# Altium footprint library microchip-package.PcbLib: 7 footprints
Each footprint in its own frame and in the unit in brackets; x right, y up, seen from the top. Pads: shape width x height; smd on the part's side, far side on the other; paste and mask are expansions set on the pad; w line width, h text height; cw(c..) or ccw(c..) is an arc to the next point about the centre after c.
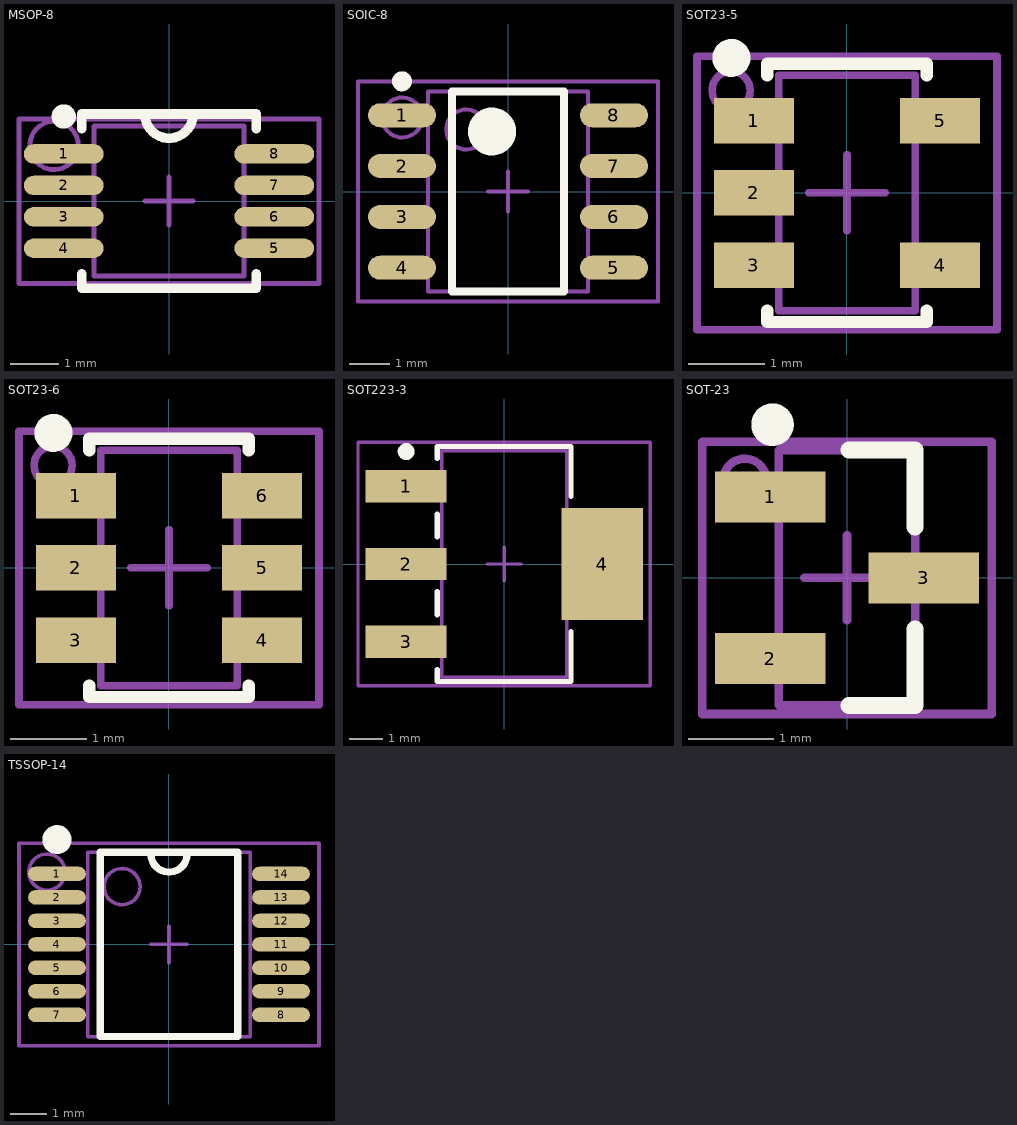
[diagram p0: the footprints below, top view; thin cyan lines are the x and y axes]

## MSOP-8 [mm] "TSOP, 8-Leads, Body 3.1x3.1mm (max), Pitch 0.65mm, IPC Medium Density"
height 1.1
pads (8):
  oval 1.65x0.4 smd: 1(-2.175,0.975) 2(-2.175,0.325) 3(-2.175,-0.325) 4(-2.175,-0.975) 5(2.175,-0.975) 6(2.175,-0.325) 7(2.175,0.325) 8(2.175,0.975)
Top Overlay:
  circle w0.25: c-2.175,1.75 r0.125
  lines w0.2: -1.8,-1.5 -1.8,-1.8 1.8,-1.8 1.8,-1.5 ; -1.8,1.5 -1.8,1.8 1.8,1.8 1.8,1.5 ; -0.5,1.8 ccw(c0,1.8) 0.5,1.8
Mechanical 13:
  lines w0.1: -0.5,0 0.5,0 ; 0,-0.5 0,0.5 ; -1.55,-1.55 1.55,-1.55 1.55,1.55 -1.55,1.55 -1.55,-1.55
Mechanical 15:
  circle w0.1: c-2.375,1.15 r0.5
  lines w0.1: -3.1,-1.7 3.1,-1.7 3.1,1.7 -3.1,1.7 -3.1,-1.7
  text ".Designator" at -1.3,0 h0.8
3D body: height 1.15, standoff 0, extent -2.45,-1.5 2.45,1.5

## SOIC-8 [mm] "SOIC, 8-Leads, Body 5.0x4.0mm (max), Pitch 1.27mm, IPC Medium Density"
height 1.75
pads (8):
  oval 1.7x0.6 smd: 1(-2.65,1.905) 2(-2.65,0.635) 3(-2.65,-0.635) 4(-2.65,-1.905) 5(2.65,-1.905) 6(2.65,-0.635) 7(2.65,0.635) 8(2.65,1.905)
Top Overlay:
  circle w0.25: c-2.65,2.755 r0.125
  circle w0.6: c-0.4,1.5 r0.3
  lines w0.2: -1.4,-2.5 -1.4,2.5 1.4,2.5 1.4,-2.5 -1.4,-2.5
Mechanical 13:
  circle w0.1: c-1.045,1.55 r0.5
  lines w0.1: -0.5,0 0.5,0 ; 0,-0.5 0,0.5 ; -1.995,-2.5 -1.995,2.5 1.995,2.5 1.995,-2.5 -1.995,-2.5
Mechanical 15:
  circle w0.1: c-2.645,1.85 r0.5
  lines w0.1: -3.75,-2.75 -3.75,2.75 3.75,2.75 3.75,-2.75 -3.75,-2.75
  text ".Designator" at -0.1,2.375 h0.5
3D body: height 1.7, standoff 0, extent -3,-2.45 3,2.45

## SOT23-5 [mm] "5-Lead Plastic Small Outline Transistor"
height 1.45
pads (5):
  rect 1.05x0.6 smd: 1(-1.225,0.95) 2(-1.225,0) 3(-1.225,-0.95) 4(1.225,-0.95) 5(1.225,0.95)
Top Overlay:
  circle w0.25: c-1.522,1.778 r0.125
  lines w0.16: -1.05,-1.55 -1.05,-1.7 1.05,-1.7 1.05,-1.55 ; -1.05,1.55 -1.05,1.7 1.05,1.7 1.05,1.55
Mechanical 13:
  lines w0.1: -0.5,0 0.5,0 ; 0,-0.5 0,0.5 ; -0.9,-1.55 0.9,-1.55 0.9,1.55 -0.9,1.55 -0.9,-1.55
Mechanical 15:
  circle w0.1: c-1.526,1.35 r0.251
  lines w0.1: -1.975,-1.8 1.975,-1.8 1.975,1.8 -1.975,1.8 -1.975,-1.8
  text ".Designator" at -0.2,1.275 h0.8
3D body: height 1.09, standoff -0.01, extent -1.25,-1.5 1.25,1.5

## SOT23-6 [mm] "6-Lead Plastic Small Outline Transistor"
height 1.45
pads (6):
  rect 1.05x0.6 smd: 1(-1.225,0.95) 2(-1.225,0) 3(-1.225,-0.95) 4(1.225,-0.95) 5(1.225,0) 6(1.225,0.95)
Top Overlay:
  circle w0.25: c-1.522,1.778 r0.125
  lines w0.16: -1.05,-1.55 -1.05,-1.7 1.05,-1.7 1.05,-1.55 ; -1.05,1.55 -1.05,1.7 1.05,1.7 1.05,1.55
Mechanical 13:
  lines w0.1: -0.5,0 0.5,0 ; 0,-0.5 0,0.5 ; -0.9,-1.55 -0.9,1.55 0.9,1.55 0.9,-1.55 -0.9,-1.55
Mechanical 15:
  circle w0.1: c-1.526,1.35 r0.251
  lines w0.1: -1.975,-1.8 -1.975,1.8 1.975,1.8 1.975,-1.8 -1.975,-1.8
  text ".Designator" at -0.2,1.275 h0.8
3D body: height 1.09, standoff 0, extent -1.213,-1.397 1.213,1.397

## SOT223-3 [mm] "3-Lead Plastic Small Outline Transistor"
height 1.8
pads (4):
  rect 2.4x0.95 smd: 1(-2.9,2.3) 2(-2.9,0) 3(-2.9,-2.3)
  rect 2.4x3.3 smd: 4(2.9,0)
Top Overlay:
  circle w0.25: c-2.9,3.325 r0.125
  lines w0.16: -1.975,-3.125 -1.975,-3.475 1.975,-3.475 1.975,-2 ; -1.975,-1.5 -1.975,-0.825 ; -1.975,0.8 -1.975,1.475 ; -1.975,3.125 -1.975,3.475 1.975,3.475 1.975,2
Mechanical 13:
  lines w0.1: -0.5,0 0.5,0 ; 0,-0.5 0,0.5 ; -1.85,-3.35 1.85,-3.35 1.85,3.35 -1.85,3.35 -1.85,-3.35
Mechanical 15:
  lines w0.1: -4.325,-3.6 4.325,-3.6 4.325,3.6 -4.325,3.6 -4.325,-3.6
  text ".Designator" at -0.9,-0.7 h1.52
3D body: height 1.66, standoff -0.02, extent -3.48,-3.25 3.48,3.25

## SOT-23 [mm] "SOT23, 3-Leads, Body 3.0x2.8mm (max), Pitch 0.95mm, IPC High Density"
height 1.4
pads (3):
  rect 1.3x0.6 smd: 1(-0.9,0.95) 2(-0.9,-0.95) 3(0.9,0)
Top Overlay:
  circle w0.25: c-0.875,1.8 r0.125
  lines w0.2: 0.025,-1.5 0.8,-1.5 0.8,-0.6 ; 0.025,1.5 0.8,1.5 0.8,0.6
Mechanical 13:
  lines w0.1: -0.5,0 0.5,0 ; 0,-0.5 0,0.5 ; -0.8,-1.5 -0.8,1.5 0.8,1.5 0.8,-1.5 -0.8,-1.5
Mechanical 15:
  circle w0.1: c-1.201,1.15 r0.251
  lines w0.1: -1.7,-1.6 -1.7,1.6 1.7,1.6 1.7,-1.6 -1.7,-1.6
  text ".Designator" at -0.2,1.325 h0.5
3D body: height 1.02, standoff 0.02, extent -1.17,-1.46 1.17,1.46

## TSSOP-14 [mm] "TSOP, 14-Leads, Body 5.1x4.5mm (max), Pitch 0.65mm, IPC Medium Density"
height 1.2
pads (14):
  oval 1.6x0.4 smd: 1(-3.1,1.95) 2(-3.1,1.3) 3(-3.1,0.65) 4(-3.1,0) 5(-3.1,-0.65) 6(-3.1,-1.3) 7(-3.1,-1.95) 8(3.1,-1.95) 9(3.1,-1.3) 10(3.1,-0.65) 11(3.1,0) 12(3.1,0.65) 13(3.1,1.3) 14(3.1,1.95)
Top Overlay:
  circle w0.4: c-3.1,2.9 r0.2
  lines w0.2: -0.5,2.5 ccw(c0,2.5) 0.5,2.5 ; -1.9,-2.55 1.9,-2.55 1.9,2.55 -1.9,2.55 -1.9,-2.55
Mechanical 13:
  circle w0.1: c-1.3,1.6 r0.5
  lines w0.1: -0.5,0 0.5,0 ; 0,-0.5 0,0.5 ; -2.25,-2.55 2.25,-2.55 2.25,2.55 -2.25,2.55 -2.25,-2.55
Mechanical 15:
  circle w0.1: c-3.375,2 r0.5
  lines w0.1: -4.15,-2.8 4.15,-2.8 4.15,2.8 -4.15,2.8 -4.15,-2.8
  text ".Designator" at -1.613,-0.854 h0.5
3D body: height 0.98, standoff -0.02, extent -3.21,-2.5 3.21,2.5